# Altium footprint library libreriaPcb.PcbLib: 683 footprints (part 21 of 44)
Each footprint in its own frame and in the unit in brackets; x right, y up, seen from the top. Pads: shape width x height; smd on the part's side, far side on the other; paste and mask are expansions set on the pad; w line width, h text height; cw(c..) or ccw(c..) is an arc to the next point about the centre after c.
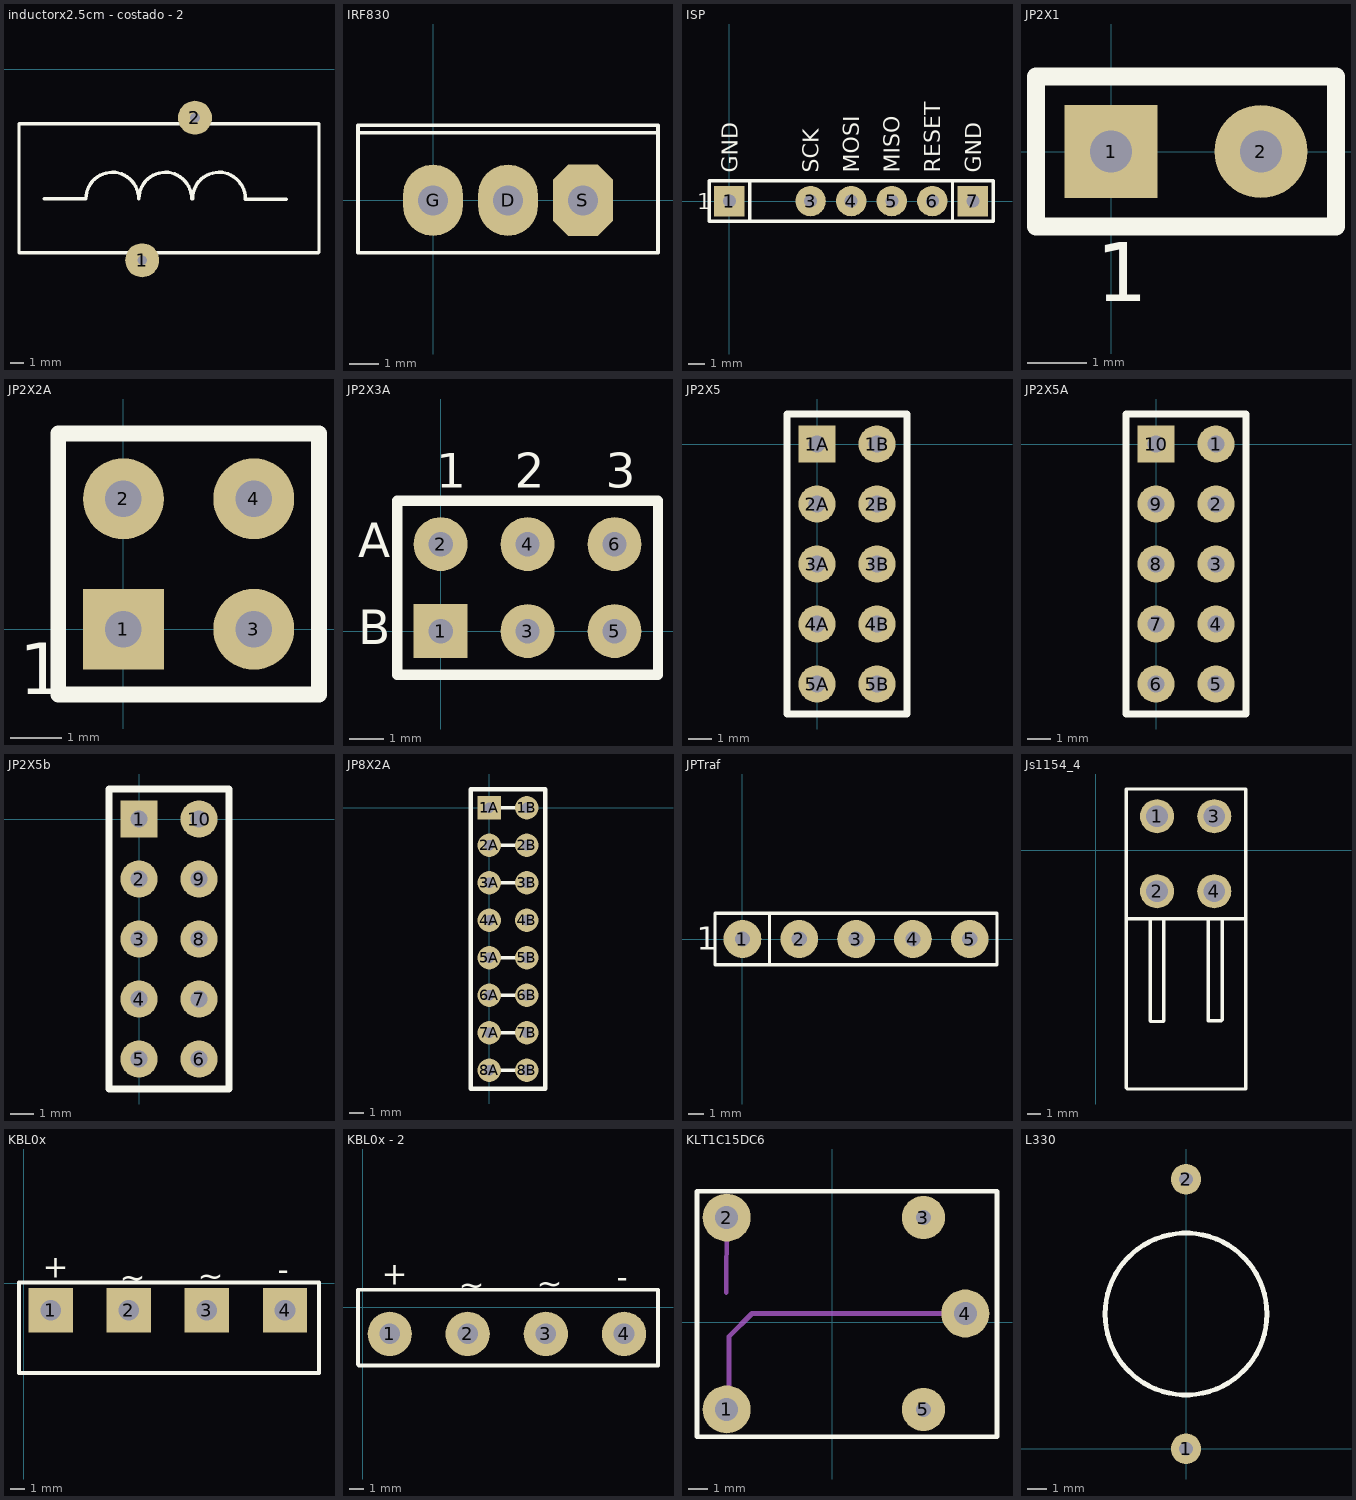
[diagram p20: the footprints below, top view; thin cyan lines are the x and y axes]

## inductorx2.5cm - costado - 2 [mil]
pads (2):
  round 98.43 hole 28: 1(531,-553) 2(684,-140)
Top Overlay:
  lines w10: 179.66,-531.11 174.15,-531.11 174.15,-511.41 174.15,-157.6 1043.31,-157.6 ; 181.1,-531.11 1040.95,-531.11 1043.31,-528.75 1043.31,-157.6 ; 247.64,-375.2 368.11,-375.2 cw(c444.49,-374.41) 520.87,-374.41 ; 521.65,-375.2 cw(c598.03,-374.41) 674.41,-374.41 ; 677.17,-375.2 cw(c753.54,-374.41) 829.93,-374.41 ; 829.93,-376.38 948.43,-376.38 ; 1043.31,-158.78 1043.31,-157.6
3D body "BOB.step": height 820.11, standoff 7.23, extent 207.11,-543.7 1018.39,-150

## IRF830 [mil]
pads (3):
  oval 80x95 / inner round 0 / far side oval 80x95 hole 40 paste+0: D(100,0) G(0,0)
  oct 80x95 / inner round 0 / far side oct 80x95 hole 40 paste+0: S(200,0)
Top Overlay:
  lines w5: -100,90 -100,100 300,100 300,90 ; -100,90 300,90 ; -100,90 -100,10 -100,-70 300,-70 300,90

## ISP [mil] "Programacion"
pads (6):
  rect 75x75 hole 32: 1(0,0) 7(600,0)
  round 75 hole 32: 3(200,0) 4(300,0) 5(400,0) 6(500,0)
Top Overlay:
  lines w7.87: 50,-50 50,50 ; 550,-50 550,50 ; -50,-50 650,-50 650,50 -50,50 -50,-50
  text "GND" at 620,70 h39.37
  text "RESET" at 520,70 h39.37
  text "MISO" at 420,70 h39.37
  text "MOSI" at 320,70 h39.37
  text "SCK" at 220,70 h39.37
  text "GND" at 20,70 h39.37
  text "1" at -80,-20 h39.37

## JP2X1 [mil]
pads (2):
  rect 62x62 hole 28: 1(0,0)
  round 62 hole 28: 2(100,0)
Top Overlay:
  lines w12: -50,-50 150,-50 150,50 -50,50 -50,-50
  text "1" at -10,-100 h39.37

## JP2X2A [mil]
pads (4):
  rect 62x62 hole 28: 1(0,0)
  round 62 hole 28: 2(0,100) 3(100,0) 4(100,100)
Top Overlay:
  lines w12: -50,-50 -50,150 150,150 150,-50 -50,-50
  text "1" at -80,-50 h39.37

## JP2X3A [mil]
pads (6):
  rect 62x62 hole 28: 1(0,0)
  round 62 hole 28: 2(0,100) 3(100,0) 4(100,100) 5(200,0) 6(200,100)
Top Overlay:
  lines w12: -50,-50 250,-50 250,150 -50,150 -50,-50
  text "3" at 190,165 h39.37
  text "2" at 85,165 h39.37
  text "1" at -5,165 h39.37
  text "B" at -95,-15 h39.37
  text "A" at -95,85 h39.37

## JP2X5 [mil]
pads (10):
  rect 62x62 hole 28: 1A(0,0)
  round 62 hole 28: 1B(100,0) 2A(0,-100) 2B(100,-100) 3A(0,-200) 3B(100,-200) 4A(0,-300) 4B(100,-300) 5A(0,-400) 5B(100,-400)
Top Overlay:
  lines w12: -50,-450 150,-450 150,50 -50,50 -50,-450

## JP2X5A [mil]
pads (10):
  round 62 hole 28: 1(100,0) 2(100,-100) 3(100,-200) 4(100,-300) 5(100,-400) 6(0,-400) 7(0,-300) 8(0,-200) 9(0,-100)
  rect 62x62 hole 28: 10(0,0)
Top Overlay:
  lines w12: -50,-450 150,-450 150,50 -50,50 -50,-450

## JP2X5b [mil]
pads (10):
  rect 62x62 hole 28: 1(0,0)
  round 62 hole 28: 2(0,-100) 3(0,-200) 4(0,-300) 5(0,-400) 6(100,-400) 7(100,-300) 8(100,-200) 9(100,-100) 10(100,0)
Top Overlay:
  lines w12: -50,-450 150,-450 150,50 -50,50 -50,-450

## JP8X2A [mil]
pads (16):
  rect 62x62 hole 28: 1A(0,0)
  round 62 hole 28: 1B(100,0) 2A(0,-100) 2B(100,-100) 3A(0,-200) 3B(100,-200) 4A(0,-300) 4B(100,-300) 5A(0,-400) 5B(100,-400) 6A(0,-500) 6B(100,-500) 7A(0,-600) 7B(100,-600) 8A(0,-700) 8B(100,-700)
Top Overlay:
  lines w10: 0,-700 100,-700 ; 0,-600 100,-600 ; 0,-500 100,-500 ; 0,-400 100,-400 ; 0,-200 100,-200 ; 0,-100 100,-100 ; 0,0 100,0
  lines w12: -50,-750 -50,50 150,50 150,-750 -50,-750

## JPTraf [mm]
pads (5):
  round 2.5 hole 1: 1(0,0) 2(3.75,0) 3(7.5,0) 4(11.25,0) 5(15,0)
Top Overlay:
  lines w0.2: 1.8,-1.7 1.8,1.7 ; -1.8,-1.7 16.8,-1.7 16.8,1.7 -1.8,1.7 -1.8,-1.7
  text "1" at -3,-0.7 h1.52

## Js1154_4 [mm]
pads (4):
  round 2.5 hole 1.6: 1(4.5,2.5) 2(4.5,-3) 3(8.7,2.5) 4(8.7,-3)
Top Overlay:
  lines w0.254: 2.25,-5 10.95,-5 11,-5.05 ; 4,-5 4,-12.5 4.05,-12.55 4.95,-12.55 5,-12.5 5,-5 ; 8.25,-5 8.25,-12.5 9.2,-12.5 9.3,-12.4 9.3,-5 ; 2.25,-17.4 2.35,-17.5 10.55,-17.5 11,-17.5 11,2.5 11,4.5 2.25,4.5 2.25,-17.4

## KBL0x [mm]
pads (4):
  rect 3x3 hole 1.4: 1(1.824,-1.82) 2(7.1,-1.82) 3(12.4,-1.82) 4(17.7,-1.82)
Top Overlay:
  lines w0.254: -0.33,-6.07 20,-6.07 20,-3.52 20,0.07 -0.33,0.07 -0.33,-6.07
  text "+" at 1.29,0.4 h1.52
  text "-" at 17.2,0.18 h1.52
  text "~" at 11.8,-0.22 h1.52
  text "~" at 6.5,-0.32 h1.52
3D body: height 18, standoff 0, extent -0.457,-6.197 20.127,0.197

## KBL0x - 2 [mm]
pads (4):
  round 3 hole 1.4: 1(1.824,-1.82) 2(7.1,-1.82) 3(12.4,-1.82) 4(17.7,-1.82)
Top Overlay:
  lines w0.254: -0.33,-3.886 -0.254,-3.962 20,-3.962 20,-2.428 20,1.162 -0.33,1.162 -0.33,-3.886
  text "+" at 1.29,1.492 h1.52
  text "-" at 17.2,1.272 h1.52
  text "~" at 11.8,0.872 h1.52
  text "~" at 6.5,0.772 h1.52
3D body: height 18, standoff 5, extent -0.457,-4.013 20.127,1.289
3D body: height 4, standoff 0, extent 0.824,-2.819 2.824,-0.82
3D body: height 4, standoff 0, extent 6.1,-2.819 8.1,-0.82
3D body: height 4, standoff 0, extent 11.4,-2.819 13.4,-0.82
3D body: height 4, standoff 0, extent 16.7,-2.819 18.7,-0.82

## KLT1C15DC6 [mm]
pads (5):
  round 2.5 hole 1.2: 1(-5.5,-4.55) 2(-5.5,5.458) 4(6.946,0.454)
  round 2.25 hole 0.8: 3(4.762,5.458) 5(4.762,-4.55)
Top Overlay:
  lines w0.254: -7.049,-5.972 -7.049,6.829 8.597,6.829 8.597,-5.972 -7.049,-5.972
Mechanical 1:
  lines w0.254: -5.525,1.546 -5.5,5.458 ; -5.5,-4.55 -5.373,-4.55 -5.373,-0.74 -4.179,0.454 -3.062,0.454 6.946,0.454
3D body: height 14, standoff 0, extent -7.024,-5.972 8.495,6.728

## L330 [mil]
pads (2):
  round 62 hole 28: 1(0,0) 2(0,550)
Top Overlay:
  circle w10: c0,275 r165.08